# EAGLE library part OUTPUT-CONN (library library)
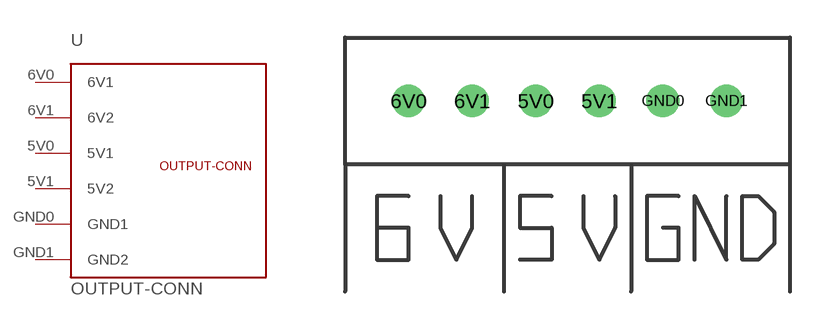
[diagram p0: symbol with the pads of OUTPUT-CONN; footprint OUTPUT-CONN]

Designator prefix -

## OUTPUT-CONN  [OUTPUT-CONN]
5V0  5V1  in
5V1  5V2  in
6V0  6V1  in
6V1  6V2  in
GND0  GND1  in
GND1  GND2  in

## Footprint OUTPUT-CONN (pad centres in mm)
drill 0.8: 5V0 7.62,2.54; 5V1 10.16,2.54; 6V0 2.54,2.54; 6V1 5.08,2.54; GND0 12.7,2.54; GND1 15.24,2.54